# Altium schematic symbol library eUSR_SchLibrary - Inductor.SchLib: 5 symbols
Pins are listed as number, name and electrical type; pins without a type are passive.

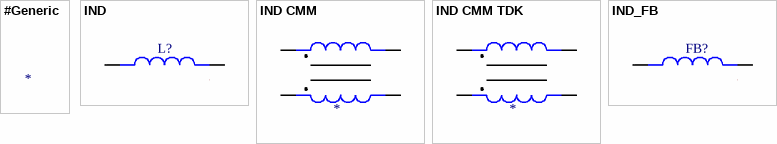
[diagram p0: symbols #Generic to IND_FB]

## #Generic
designator ?
Manufacturing: #####; Value: #####; Package: #####; Price: #####; PN: #####; ComponentLink1Description: Datasheet; ComponentLink1URL: #####; ComponentLink2Description: Distributor Link; ComponentLink2URL: #####; Distributor: #####; Distributor PN: #####

## IND
designator L?  (value not drawn)
ComponentLink1Description: Datasheet; ComponentLink2Description: Distributor Link
pins: 1, 2

## IND CMM
designator L?
ComponentLink1Description: Datasheet; ComponentLink1URL: *; ComponentLink2Description: Distributor Link; ComponentLink2URL: *
pins: 1, 2, 3, 4

## IND CMM TDK
designator L?
ComponentLink1Description: Datasheet; ComponentLink1URL: *; ComponentLink2Description: Distributor Link; ComponentLink2URL: *
pins: 1, 2, 3, 4

## IND_FB
designator FB?  (value not drawn)
ComponentLink1Description: Datasheet; ComponentLink2Description: Distributor Link
pins: 1, 2